# Altium schematic symbol library DIN_connectors.SchLib: 1 symbol
Pins are listed as number, name and electrical type; pins without a type are passive.

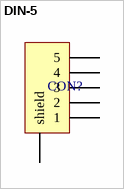
[diagram p0: symbol DIN-5]

## DIN-5
designator CON?  (value not drawn)
footprint DIN-5 (midi connector)
pins: 0 shield, 1, 2, 3, 4, 5